# Altium footprint library TMK212BJ105KG-T.PcbLib: 3 footprints
Each footprint in its own frame and in the unit in brackets; x right, y up, seen from the top. Pads: shape width x height; smd on the part's side, far side on the other; paste and mask are expansions set on the pad; w line width, h text height; cw(c..) or ccw(c..) is an arc to the next point about the centre after c.
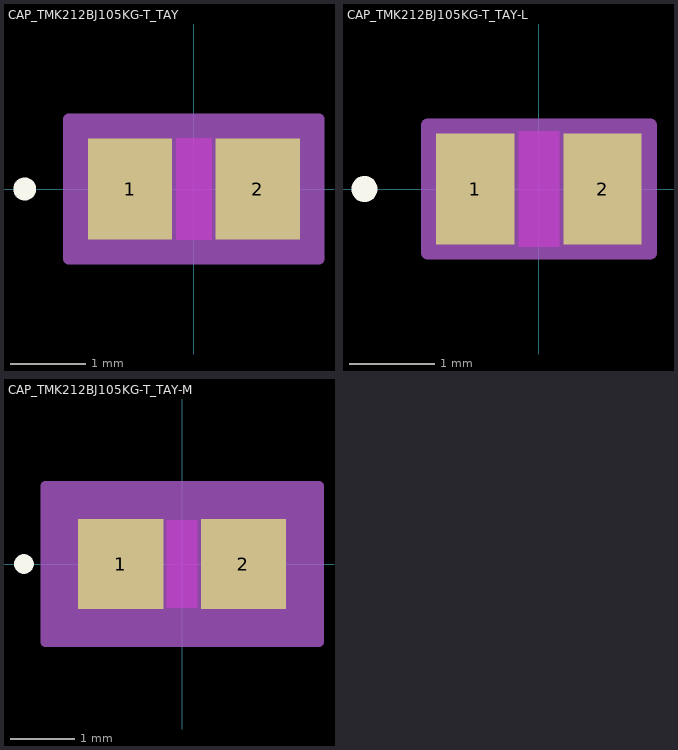
[diagram p0: the footprints below, top view; thin cyan lines are the x and y axes]

## CAP_TMK212BJ105KG-T_TAY [mil]
pads (2):
  rect 44x53 smd paste+0 mask+0: 1(-33.34,0) 2(33.34,0)
Top Layer keep-out:
  region: -9.34,-24.5 -9.34,24.5 9.34,24.5 9.34,-24.5
Top Overlay:
  circle w6: c-88.34,0 r3
Keep-Out Layer:
  region: -9.34,-26.5 -9.34,26.5 9.34,26.5 9.34,-26.5
Mechanical 13:
  circle w0: c-28.34,0 r3
  lines w1: -41.34,-26.5 -41.34,26.5 ; -41.34,-26.5 -11.34,-26.5 -11.34,26.5 -41.34,26.5 ; -41.34,-26.5 41.34,-26.5 ; -41.34,-26.5 -41.34,26.5 ; -41.34,26.5 41.34,26.5 ; 41.34,-26.5 11.34,-26.5 11.34,26.5 41.34,26.5 ; 41.34,-26.5 41.34,26.5 ; 41.34,-26.5 41.34,26.5
Mechanical 15:
  region: 65.34,-36.5 -65.34,-36.5 -65.34,36.5 65.34,36.5
  lines w6: -65.34,-36.5 -65.34,36.5 65.34,36.5 65.34,-36.5 -65.34,-36.5
3D body "CAP_TMK212BJ105KG-T_TAY.step": height 53.15, standoff 0, extent -41.34,-26.5 41.34,26.5

## CAP_TMK212BJ105KG-T_TAY-L [mil]
pads (2):
  rect 36x51 smd paste+0 mask+0: 1(-29.34,0) 2(29.34,0)
Top Layer keep-out:
  region: -9.34,-24.5 -9.34,24.5 9.34,24.5 9.34,-24.5
Top Overlay:
  circle w6: c-80.34,0 r3
Keep-Out Layer:
  region: -9.34,-26.5 -9.34,26.5 9.34,26.5 9.34,-26.5
Mechanical 13:
  circle w0: c-24.34,0 r3
  lines w1: -41.34,-26.5 -41.34,26.5 ; -41.34,-26.5 -11.34,-26.5 -11.34,26.5 -41.34,26.5 ; -41.34,-26.5 41.34,-26.5 ; -41.34,-26.5 -41.34,26.5 ; -41.34,26.5 41.34,26.5 ; 41.34,-26.5 11.34,-26.5 11.34,26.5 41.34,26.5 ; 41.34,-26.5 41.34,26.5 ; 41.34,-26.5 41.34,26.5
Mechanical 15:
  region: 51.34,-29.5 -51.34,-29.5 -51.34,29.5 51.34,29.5
  lines w6: -51.34,-29.5 -51.34,29.5 51.34,29.5 51.34,-29.5 -51.34,-29.5
3D body "CAP_TMK212BJ105KG-T_TAY.step": height 53.15, standoff 0, extent -41.34,-26.5 41.34,26.5

## CAP_TMK212BJ105KG-T_TAY-M [mil]
pads (2):
  rect 52x55 smd paste+0 mask+0: 1(-37.34,0) 2(37.34,0)
Top Layer keep-out:
  region: -9.34,-24.5 -9.34,24.5 9.34,24.5 9.34,-24.5
Top Overlay:
  circle w6: c-96.34,0 r3
Keep-Out Layer:
  region: -9.34,-26.5 -9.34,26.5 9.34,26.5 9.34,-26.5
Mechanical 13:
  circle w0: c-32.34,0 r3
  lines w1: -41.34,-26.5 -41.34,26.5 ; -41.34,-26.5 -11.34,-26.5 -11.34,26.5 -41.34,26.5 ; -41.34,-26.5 41.34,-26.5 ; -41.34,-26.5 -41.34,26.5 ; -41.34,26.5 41.34,26.5 ; 41.34,-26.5 11.34,-26.5 11.34,26.5 41.34,26.5 ; 41.34,-26.5 41.34,26.5 ; 41.34,-26.5 41.34,26.5
Mechanical 15:
  region: 83.34,-47.5 -83.34,-47.5 -83.34,47.5 83.34,47.5
  lines w6: -83.34,-47.5 -83.34,47.5 83.34,47.5 83.34,-47.5 -83.34,-47.5
3D body "CAP_TMK212BJ105KG-T_TAY.step": height 53.15, standoff 0, extent -41.34,-26.5 41.34,26.5